# Altium footprint library mechanical.PcbLib: 6 footprints
Each footprint in its own frame and in the unit in brackets; x right, y up, seen from the top. Pads: shape width x height; smd on the part's side, far side on the other; paste and mask are expansions set on the pad; w line width, h text height; cw(c..) or ccw(c..) is an arc to the next point about the centre after c.
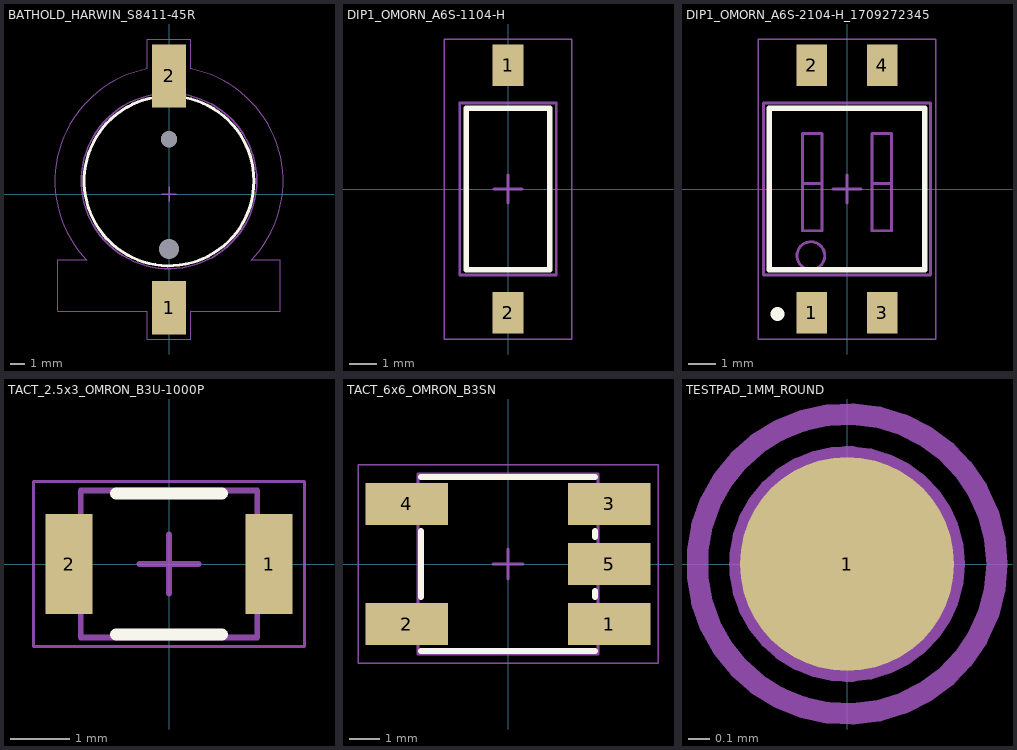
[diagram p0: the footprints below, top view; thin cyan lines are the x and y axes]

## BATHOLD_HARWIN_S8411-45R [mm] "BATTERY HOLDER coin cell  12mm HARWIN S8411-45R"
height 4.25
pads (4):
  rect 2.3x3.66 smd: 1(0,-7.76)
  rect 2.3x4.3 smd: 2(0,8.08)
  round 1.35 hole 1.35 unplated: ""(0,-3.75)
  round 1.1 hole 1.1 unplated: ""(0,3.75)
Top Overlay:
  circle w0.2: c0,0.9 r5.8
Assembly Outline:
  circle w0.1: c0,0.9 r6
Assembly Refdes:
  text ".Designator" at 0,0 h0.5
Courtyard Outline:
  lines w0.05: -5.613,-4.516 cw(c0,0.9) -1.51,8.552 ; -5.613,-4.5 -7.6,-4.5 -7.6,-8 -5.6,-8 -1.5,-8 -1.5,-9.9 1.5,-9.9 1.5,-8 5.4,-8 7.6,-8 7.6,-4.5 5.615,-4.5 ; -1.5,8.552 -1.5,10.6 1.5,10.6 1.5,8.552 ; 1.51,8.552 cw(c0,0.9) 5.615,-4.514
  lines w0.1: -0.5,0 0.5,0 ; 0,-0.5 0,0.5
3D body "s8411-45r_asm.stp": height 4.25, standoff -1, extent -7.374,-9.405 7.374,9.795

## DIP1_OMORN_A6S-1104-H [mm] "DIP 1-pole 2.54mm OMORN A6S-1104-H"
height 1.75
pads (2):
  rect 1.1x1.5 smd: 1(0,4.45) 2(0,-4.45)
Top Overlay:
  lines w0.2: -1.5,-2.9 -1.5,2.9 -0.64,2.9 1.5,2.9 1.5,-2.9 -1.5,-2.9
Assembly Outline:
  lines w0.1: -1.74,-3.1 -1.74,3.1 1.74,3.1 1.74,-3.1 -1.74,-3.1
Assembly Refdes:
  text ".Designator" at 0,0 h0.5
Courtyard Outline:
  lines w0.05: -2.3,-5.4 2.3,-5.4 2.3,5.4 -2.3,5.4 -2.3,-5.4
  lines w0.1: -0.5,0 0.5,0 ; 0,-0.5 0,0.5
3D body "switch_a6sn-1104.stp": height 5.45, standoff 0, extent -2.245,-4.65 2.245,4.65

## DIP1_OMORN_A6S-2104-H_1709272345 [mm] "DIP 2-pole 2.54mm OMORN A6S-2104-H"
height 1.75
pads (4):
  rect 1.1x1.5 smd: 1(-1.27,-4.45) 2(-1.27,4.45) 3(1.27,-4.45) 4(1.27,4.45)
Top Overlay:
  circle w0.25: c-2.5,-4.5 r0.125
  lines w0.2: -2.8,-2.9 2.8,-2.9 2.8,2.9 -0.64,2.9 -2.8,2.9 -2.8,-2.9
Assembly Outline:
  circle w0.1: c-1.3,-2.4 r0.5
  lines w0.1: -1.6,0.2 -0.9,0.2 ; 0.9,0.2 1.6,0.2 ; -3.01,-3.1 3.01,-3.1 3.01,3.1 -3,3.1 -3.01,3.09 -3.01,-3.1 ; -1.6,-1.5 -1.6,2 -0.9,2 -0.9,-1.5 -1.6,-1.5 ; 0.9,-1.5 1.6,-1.5 1.6,2 0.9,2 0.9,-1.5
Assembly Refdes:
  text ".Designator" at 0,0 h0.5
Courtyard Outline:
  lines w0.05: -3.2,-5.4 -3.2,5.4 3.2,5.4 3.2,-5.4 -3.2,-5.4
  lines w0.1: -0.5,0 0.5,0 ; 0,-0.5 0,0.5
3D body "User Library-DIP Swtich SDA02H0SBD 2 Pos 2_54mm pitch.step": height 4.45, standoff 0, extent -3.53,-4.535 3.53,4.535

## TACT_2.5x3_OMRON_B3U-1000P [mm] "Tactile 2-pole, OMORN B3U-1000P"
height 1.75
pads (2):
  rect 0.8x1.7 smd: 1(1.7,0) 2(-1.7,0)
Top Overlay:
  lines w0.2: -0.9,-1.2 0.9,-1.2 ; -0.9,1.2 0.9,1.2
Assembly Outline:
  lines w0.1: -1.5,-1.25 1.5,-1.25 1.5,1.25 -1.5,1.25 -1.5,-1.25
Assembly Refdes:
  text ".Designator" at 0,0 h0.5
Courtyard Outline:
  lines w0.05: -2.3,-1.4 -2.3,1.4 2.3,1.4 2.3,-1.4 -2.3,-1.4
  lines w0.1: -0.5,0 0.5,0 ; 0,-0.5 0,0.5
3D body "B3U_1000P[].step": height 1.6, standoff 0, extent -2,-1.25 2,1.25

## TACT_6x6_OMRON_B3SN [mm] "Tactile 4-pole, GND connection OMORN B3SN-3x12"
height 1.75
pads (5):
  rect 2.75x1.4 smd: 1(3.375,-2) 2(-3.375,-2) 3(3.375,2) 4(-3.375,2) 5(3.375,0)
Top Overlay:
  lines w0.2: -2.9,-2.9 2.9,-2.9 ; -2.9,-1.1 -2.9,1.1 ; -2.9,2.9 -0.64,2.9 2.9,2.9 ; 2.9,-1.1 2.9,-0.9 ; 2.9,0.9 2.9,1.1
Assembly Outline:
  lines w0.1: -3,-3 -3,3 3,3 3,-3 -3,-3
Assembly Refdes:
  text ".Designator" at 0,0 h0.5
Courtyard Outline:
  lines w0.05: -5,-3.3 5,-3.3 5,3.3 -5,3.3 -5,-3.3
  lines w0.1: -0.5,0 0.5,0 ; 0,-0.5 0,0.5
3D body "B3SN_311[].step": height 3.1, standoff 0, extent -3.5,-3.25 3.5,3.25

## TESTPAD_1MM_ROUND [mm]
pads (1):
  round 1 smd: 1(0,0)
Assembly Outline:
  circle w0.1: c0,0 r0.5
Assembly Refdes:
  text ".Designator" at 0,0 h0.5
Courtyard Outline:
  circle w0.1: c0,0 r0.7
  lines w0.1: -0.5,0 0.5,0 ; 0,-0.5 0,0.5